# Altium schematic symbol library TXS0102DCUTG4.SchLib: 1 symbol
Pins are listed as number, name and electrical type; pins without a type are passive.

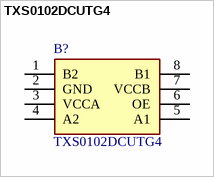
[diagram p0: symbol TXS0102DCUTG4]

## TXS0102DCUTG4
designator B?
2-Bit Bidirectional Voltage-Level Shifter for Open-Drain and Push-Pull Application; Manufacturer_Name: Texas Instruments; Geometry.Height: 0.9mm; Mouser Part Number: 595-TXS0102DCUTG4; Mouser Price/Stock: https://www.mouser.co.uk/ProductDetail/Texas-Instruments/TXS0102DCUTG4?qs=0OHPnBYoB%2FliJ1RXxm0IJQ%3D%3D; Manufacturer_Part_Number: TXS0102DCUTG4; Datasheet Link: http://www.ti.com/lit/gpn/TXS0102
footprint SOP50P310X90-8N
pins: 1 B2, 2 GND, 3 VCCA, 4 A2, 5 A1, 6 OE, 7 VCCB, 8 B1